# Altium footprint library Header_Mil-Max_800-10-002-40-002000_2-Pos.PcbLib: 1 footprints
Each footprint in its own frame and in the unit in brackets; x right, y up, seen from the top. Pads: shape width x height; smd on the part's side, far side on the other; paste and mask are expansions set on the pad; w line width, h text height; cw(c..) or ccw(c..) is an arc to the next point about the centre after c.
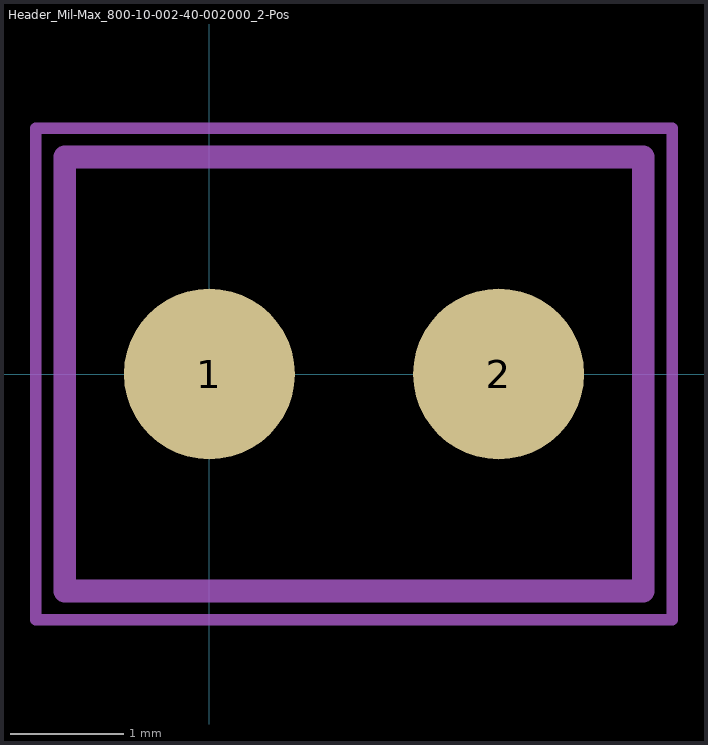
[diagram p0: the footprint, top view; thin cyan lines are the x and y axes]

## Header_Mil-Max_800-10-002-40-002000_2-Pos [mm]
height 10.08
pads (2):
  round 1.5 smd: 1(0,0) 2(2.54,0)
Mechanical 13:
  lines w0.2: -1.27,-1.905 3.81,-1.905 3.81,1.905 -1.27,1.905 -1.27,-1.905
Mechanical 15:
  lines w0.1: -1.524,-2.159 4.064,-2.159 4.064,2.159 -1.524,2.159 -1.524,-2.159
3D body: height 10.08, standoff 0, extent -1.27,-1.905 3.81,1.905